# Altium footprint library Resistor.PcbLib: 1 footprints
Each footprint in its own frame and in the unit in brackets; x right, y up, seen from the top. Pads: shape width x height; smd on the part's side, far side on the other; paste and mask are expansions set on the pad; w line width, h text height; cw(c..) or ccw(c..) is an arc to the next point about the centre after c.
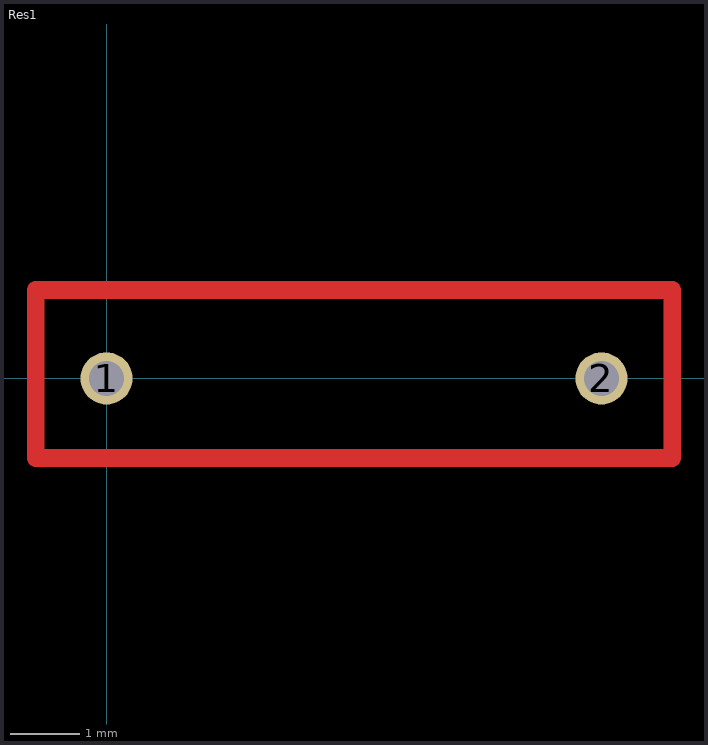
[diagram p0: the footprint, top view; thin cyan lines are the x and y axes]

## Res1 [mm]
pads (2):
  round 0.75 hole 0.5: 1(0,0) 2(7.112,0)
Top Layer:
  lines w0.254: -0.508,1.27 8.128,1.27 8.128,-1.143 -1.016,-1.143 -1.016,1.27 -0.254,1.27